# Altium footprint library QFN40P180X260X55-16N.PcbLib: 1 footprints
Each footprint in its own frame and in the unit in brackets; x right, y up, seen from the top. Pads: shape width x height; smd on the part's side, far side on the other; paste and mask are expansions set on the pad; w line width, h text height; cw(c..) or ccw(c..) is an arc to the next point about the centre after c.
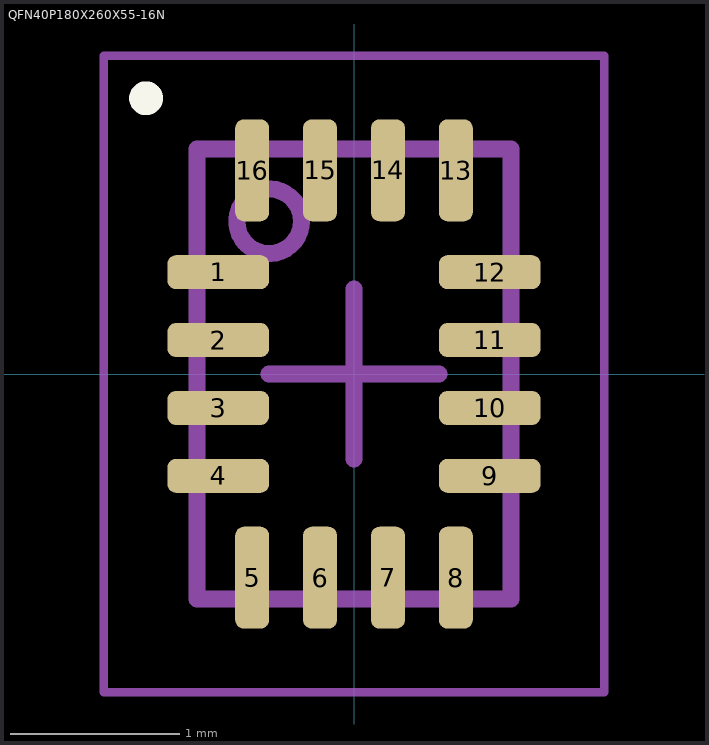
[diagram p0: the footprint, top view; thin cyan lines are the x and y axes]

## QFN40P180X260X55-16N [mm] "QFN, 16-Leads, Body 1.80x2.60mm, Pitch 0.40mm, IPC Medium Density"
height 0.55
pads (16):
  rrect50% 0.6x0.2 smd mask+0.05: 1(-0.8,0.6) 2(-0.8,0.2) 3(-0.8,-0.2) 4(-0.8,-0.6) 9(0.8,-0.6) 10(0.8,-0.2) 11(0.8,0.2) 12(0.8,0.6)
  rrect50% 0.2x0.6 smd mask+0.05: 5(-0.6,-1.2) 6(-0.2,-1.2) 7(0.2,-1.2) 8(0.6,-1.2) 13(0.6,1.2) 14(0.2,1.2) 15(-0.2,1.2) 16(-0.6,1.2)
Top Overlay:
  circle w0.1: c-1.225,1.625 r0.05
Top Assembly:
  circle w0.1: c-0.5,0.9 r0.19
  lines w0.1: -0.925,-1.325 -0.925,1.325 0.925,1.325 0.925,-1.325 -0.925,-1.325
Top Courtyard:
  lines w0.05: -1.475,-1.875 -1.475,1.875 1.475,1.875 1.475,-1.875 -1.475,-1.875
  lines w0.1: -0.5,0 0.5,0 ; 0,-0.5 0,0.5
3D body "QFN40P180X260X55-16N.step": height 0.55, standoff 0, extent -0.975,-1.375 0.975,1.375